# EAGLE library part 6273XX20621_62736020621 (library WR-BHD)
WR-BHD 1.27 mm Male Characteristics Working Voltage: 250 V Operating Temperature : -40°C up to 105°C UL approval: E323964 UL94-V0 Applications Industrial Production lines Details see: www.we-online.com/components/products/WTB_WR_BHD_BOX_HEADER_1_27MM_MALE Updated by Ella 2026-09-16 2026 (C) Würth Elektronik
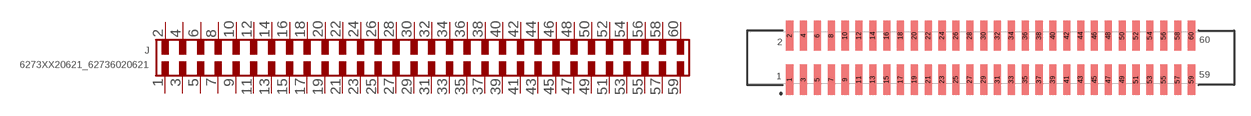
[diagram p185: symbol with the pads of 62736020621; footprint 62736020621]

Designator prefix J

## 6273XX20621_62736020621 (CATEGORY: Connectors; DATASHEET: https://www.we-online.com/redexpert/spec/62736020621?ae; GENDER: Male; LENGTH: 44.45 mm; MANUFACTURER: Würth Elektronik; MOUNT: SMT; MPN: 62736020621; OPERATING_TEMPERATURE: -40 °C up to +105 °C; PACKAGING: Tape and Reel with Cap; PINS: 60; PITCH: 1.27mm; RATED_CURRENT: 1 A; SIZE: SMT Straight; TYPE: Straight; VALUE: 62736020621)  [62736020621]
1  1  pas
2  2  pas
3  3  pas
4  4  pas
5  5  pas
6  6  pas
7  7  pas
8  8  pas
9  9  pas
10  10  pas
11  11  pas
12  12  pas
13  13  pas
14  14  pas
15  15  pas
16  16  pas
17  17  pas
18  18  pas
19  19  pas
20  20  pas
21  21  pas
22  22  pas
23  23  pas
24  24  pas
25  25  pas
26  26  pas
27  27  pas
28  28  pas
29  29  pas
30  30  pas
31  31  pas
32  32  pas
33  33  pas
34  34  pas
35  35  pas
36  36  pas
37  37  pas
38  38  pas
39  39  pas
40  40  pas
41  41  pas
42  42  pas
43  43  pas
44  44  pas
45  45  pas
46  46  pas
47  47  pas
48  48  pas
49  49  pas
50  50  pas
51  51  pas
52  52  pas
53  53  pas
54  54  pas
55  55  pas
56  56  pas
57  57  pas
58  58  pas
59  59  pas
60  60  pas

## Footprint 62736020621 (pad centres in mm)
WR-BHD Wire-to-Board Connectors, 1.27mm, Male, SMT Straight, 60pins
smd 0.65 x 2.76: 1 -18.415,-2.02; 2 -18.415,2.02; 3 -17.145,-2.02; 4 -17.145,2.02; 5 -15.875,-2.02; 6 -15.875,2.02; 7 -14.605,-2.02; 8 -14.605,2.02; 9 -13.335,-2.02; 10 -13.335,2.02; 11 -12.065,-2.02; 12 -12.065,2.02; 13 -10.795,-2.02; 14 -10.795,2.02; 15 -9.525,-2.02; 16 -9.525,2.02; 17 -8.255,-2.02; 18 -8.255,2.02; 19 -6.985,-2.02; 20 -6.985,2.02; 21 -5.715,-2.02; 22 -5.715,2.02; 23 -4.445,-2.02; 24 -4.445,2.02; 25 -3.175,-2.02; 26 -3.175,2.02; 27 -1.905,-2.02; 28 -1.905,2.02; 29 -0.635,-2.02; 30 -0.635,2.02; 31 0.635,-2.02; 32 0.635,2.02; 33 1.905,-2.02; 34 1.905,2.02; 35 3.175,-2.02; 36 3.175,2.02; 37 4.445,-2.02; 38 4.445,2.02; 39 5.715,-2.02; 40 5.715,2.02; 41 6.985,-2.02; 42 6.985,2.02; 43 8.255,-2.02; 44 8.255,2.02; 45 9.525,-2.02; 46 9.525,2.02; 47 10.795,-2.02; 48 10.795,2.02; 49 12.065,-2.02; 50 12.065,2.02; 51 13.335,-2.02; 52 13.335,2.02; 53 14.605,-2.02; 54 14.605,2.02; 55 15.875,-2.02; 56 15.875,2.02; 57 17.145,-2.02; 58 17.145,2.02; 59 18.415,-2.02; 60 18.415,2.02